# Altium integrated library example-5.IntLib: 1 symbol
Pins are listed as number, name and electrical type; pins without a type are passive.

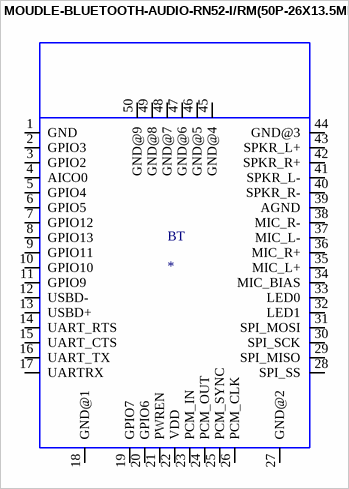
[diagram p0: symbol MOUDLE-BLUETOOTH-AUDIO-RN52-I/RM(50P-26X13.5MM)]

## MOUDLE-BLUETOOTH-AUDIO-RN52-I/RM(50P-26X13.5MM)
designator BT
Bluetooth Bluetooth v3.0, Class 2 Transceiver Module 2.4GHz Integrated, Trace Surface Mount; MP: RN52-I/RM; MF: Microchip; Price: None; Availability: Unavailable; Package: SMD-50 Microchip; Value: *; SnapEDA_Link: https://www.snapeda.com/parts/RN52-I/RM/Microchip/view-part/52689/?ref=snap
footprint LGA50-1.0-26X13.5MM
pins: 1 GND (io), 2 GPIO3 (io), 3 GPIO2 (io), 4 AICO0 (io), 5 GPIO4 (io), 6 GPIO5 (io), 7 GPIO12 (io), 8 GPIO13 (io), 9 GPIO11 (io), 10 GPIO10 (io), 11 GPIO9 (io), 12 USBD- (io), 13 USBD+ (io), 14 UART_RTS (io), 15 UART_CTS (io), 16 UART_TX (io), 17 UARTRX (io), 18 GND@1 (io), 19 GPIO7 (io), 20 GPIO6 (io), 21 PWREN (io), 22 VDD (io), 23 PCM_IN (io), 24 PCM_OUT (io), 25 PCM_SYNC (io), 26 PCM_CLK (io), 27 GND@2 (io), 28 SPI_SS (io), 29 SPI_MISO (io), 30 SPI_SCK (io), 31 SPI_MOSI (io), 32 LED1 (io), 33 LED0 (io), 34 MIC_BIAS (io), 35 MIC_L+ (io), 36 MIC_R+ (io), 37 MIC_L- (io), 38 MIC_R- (io), 39 AGND (io), 40 SPKR_R- (io), 41 SPKR_L- (io), 42 SPKR_R+ (io), 43 SPKR_L+ (io), 44 GND@3 (io), 45 GND@4 (io), 46 GND@5 (io), 47 GND@6 (io), 48 GND@7 (io), 49 GND@8 (io), 50 GND@9 (io)